# Altium footprint library DIOM5126X265N.PcbLib: 1 footprints
Each footprint in its own frame and in the unit in brackets; x right, y up, seen from the top. Pads: shape width x height; smd on the part's side, far side on the other; paste and mask are expansions set on the pad; w line width, h text height; cw(c..) or ccw(c..) is an arc to the next point about the centre after c.
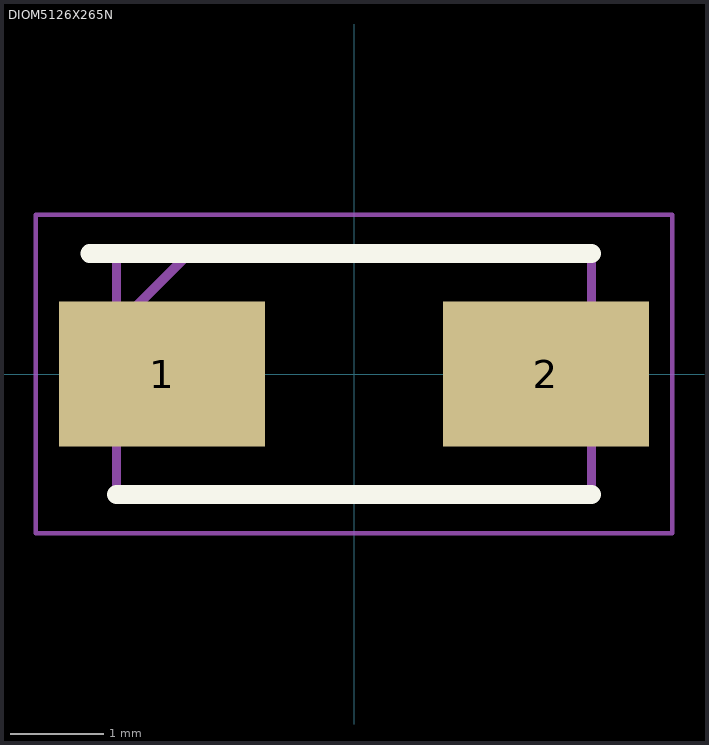
[diagram p0: the footprint, top view; thin cyan lines are the x and y axes]

## DIOM5126X265N [mm]
pads (2):
  rect 2.2x1.55 smd: 1(-2.05,0) 2(2.05,0)
Top Overlay:
  lines w0.2: -2.825,1.288 2.538,1.288 ; -2.538,-1.288 2.538,-1.288
Mechanical 15:
  lines w0.1: -2.538,0.512 -1.762,1.288 ; -2.538,-1.288 2.538,-1.288 2.538,1.288 -2.538,1.288 -2.538,-1.288
Mechanical 20:
  lines w0.05: -3.4,-1.7 3.4,-1.7 3.4,1.7 -3.4,1.7 -3.4,-1.7